# Altium footprint library Inductor.PcbLib: 1 footprints
Each footprint in its own frame and in the unit in brackets; x right, y up, seen from the top. Pads: shape width x height; smd on the part's side, far side on the other; paste and mask are expansions set on the pad; w line width, h text height; cw(c..) or ccw(c..) is an arc to the next point about the centre after c.
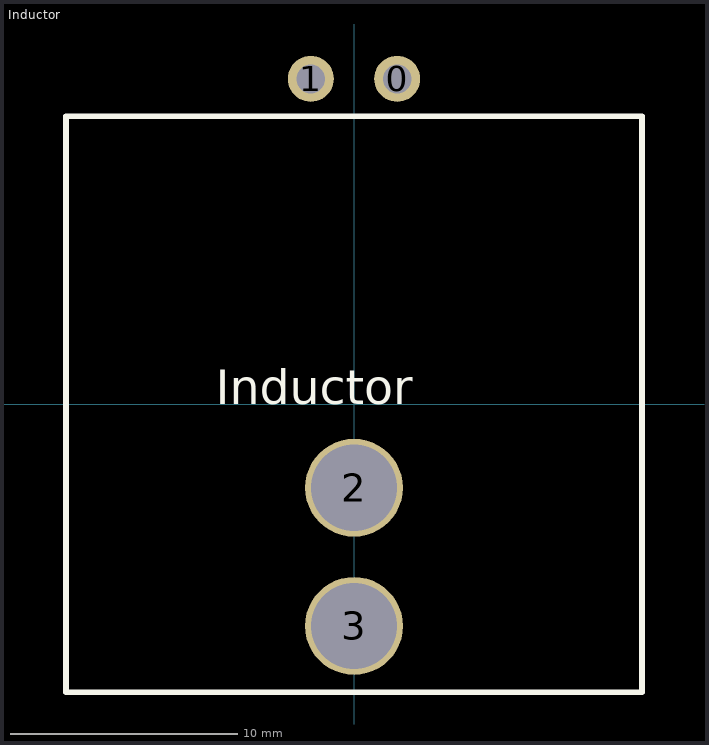
[diagram p0: the footprint, top view; thin cyan lines are the x and y axes]

## Inductor [mil]
pads (4):
  round 80 hole 50: 0(75,565) 1(-75,565)
  round 170 hole 150: 2(0,-145) 3(0,-385)
Top Overlay:
  lines w10: -500,-500 -500,500 500,500 500,-500 -500,-500
  text "Inductor" at -240,0 h60